# Altium integrated library Renesas Diode.IntLib: 1609 symbols (part 19 of 31)
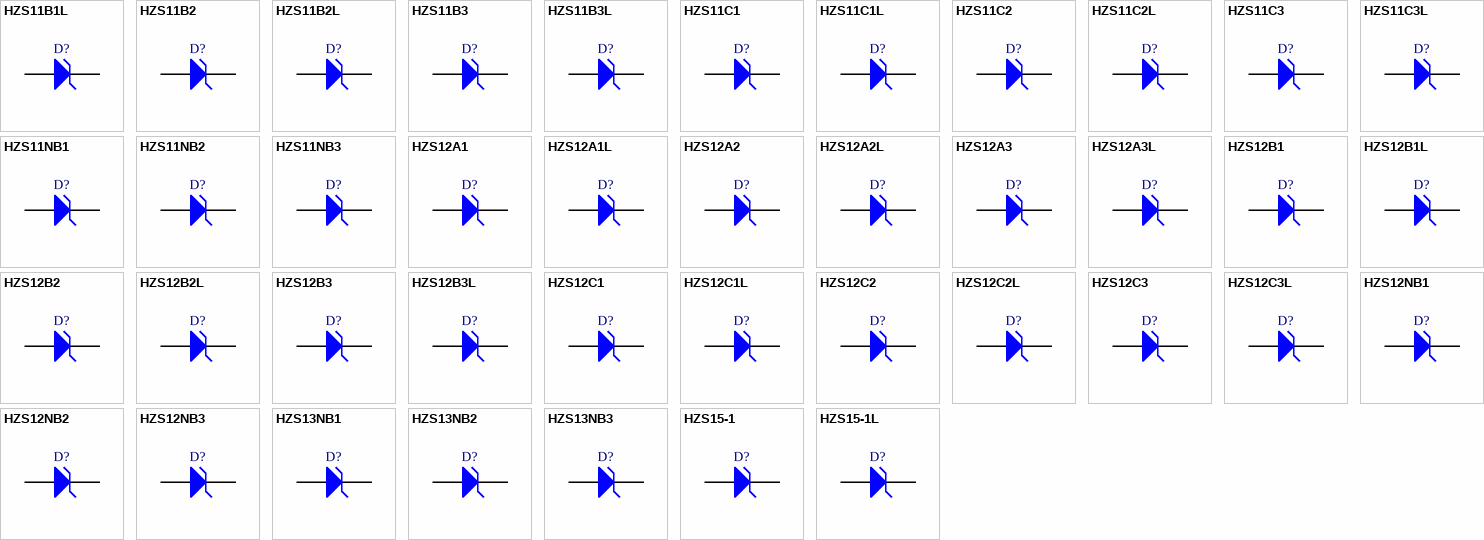
[diagram p63: symbols HZS11B1L to HZS15-1L]

## HZS12C3
designator D?
Silicon Epitaxial Planar Zener Diode for Stabilized Power Supply; Published: 12-Feb-2010; DatasheetVersion: Rev.5.00, Oct-2007; PackageVersion: Jul-2006; PackageReference: GRZZ0002ZC-A; Publisher: Altium Limited; PackageDescription: Diode, Axial; Body 2.4 x 2.0 mm (LxDia.), Lead Dia. 0.4 mm (nom); ComponentLink1Description: Manufacturer Link; ComponentLink1URL: http://sg.renesas.com/fmwk.jsp?cnt=diode_landing.jsp&fp=/products/discrete/diodes/; ComponentLink2Description: Datasheet; ComponentLink2URL: http://documentation.renesas.com/eng/products/diode/rej03g0184_hzs.pdf; ComponentLink3Description: Packaging Specification; ComponentLink3URL: http://sg.renesas.com/media/products/common_info/package/pdf/diode/code/grzz0002zc_a.pdf
footprint GRZZ0002ZC-A (Diode, Axial; Body 2.4 x 2.2 mm (LxDia. max), Lead Dia. 0.4 mm (nom))
signal-integrity model HZS12C3
pins: 1 K, 2 A

## HZS12C3L
designator D?
Silicon Epitaxial Planar Zener Diode for Low Noise Application; Published: 12-Feb-2010; DatasheetVersion: Rev.3.00, Nov-2007; PackageVersion: Jul-2006; PackageReference: GRZZ0002ZC-A; Publisher: Altium Limited; PackageDescription: Diode, Axial; Body 2.4 x 2.0 mm (LxDia.), Lead Dia. 0.4 mm (nom); ComponentLink1Description: Manufacturer Link; ComponentLink1URL: http://sg.renesas.com/fmwk.jsp?cnt=diode_landing.jsp&fp=/products/discrete/diodes/; ComponentLink2Description: Datasheet; ComponentLink2URL: http://documentation.renesas.com/eng/products/diode/rej03g0166_hzs_l.pdf; ComponentLink3Description: Packaging Specification; ComponentLink3URL: http://sg.renesas.com/media/products/common_info/package/pdf/diode/code/grzz0002zc_a.pdf
footprint GRZZ0002ZC-A (Diode, Axial; Body 2.4 x 2.2 mm (LxDia. max), Lead Dia. 0.4 mm (nom))
signal-integrity model HZS12C3L
pins: 1 K, 2 A

## HZS12NB1
designator D?
Silicon Epitaxial Planar Zener Diodes for Stabilized Power Supply; Published: 12-Feb-2010; DatasheetVersion: Rev.3.00, Nov-2007; PackageVersion: Jul-2006; PackageReference: GRZZ0002ZC-A; Publisher: Altium Limited; PackageDescription: Diode, Axial; Body 2.4 x 2.0 mm (LxDia.), Lead Dia. 0.4 mm (nom); ComponentLink1Description: Manufacturer Link; ComponentLink1URL: http://sg.renesas.com/fmwk.jsp?cnt=diode_landing.jsp&fp=/products/discrete/diodes/; ComponentLink2Description: Datasheet; ComponentLink2URL: http://documentation.renesas.com/eng/products/diode/rej03g0185_hzs_n.pdf; ComponentLink3Description: Packaging Specification; ComponentLink3URL: http://sg.renesas.com/media/products/common_info/package/pdf/diode/code/grzz0002zc_a.pdf
footprint GRZZ0002ZC-A (Diode, Axial; Body 2.4 x 2.2 mm (LxDia. max), Lead Dia. 0.4 mm (nom))
signal-integrity model HZS12NB1
pins: 1 K, 2 A

## HZS12NB2
designator D?
Silicon Epitaxial Planar Zener Diodes for Stabilized Power Supply; Published: 12-Feb-2010; DatasheetVersion: Rev.3.00, Nov-2007; PackageVersion: Jul-2006; PackageReference: GRZZ0002ZC-A; Publisher: Altium Limited; PackageDescription: Diode, Axial; Body 2.4 x 2.0 mm (LxDia.), Lead Dia. 0.4 mm (nom); ComponentLink1Description: Manufacturer Link; ComponentLink1URL: http://sg.renesas.com/fmwk.jsp?cnt=diode_landing.jsp&fp=/products/discrete/diodes/; ComponentLink2Description: Datasheet; ComponentLink2URL: http://documentation.renesas.com/eng/products/diode/rej03g0185_hzs_n.pdf; ComponentLink3Description: Packaging Specification; ComponentLink3URL: http://sg.renesas.com/media/products/common_info/package/pdf/diode/code/grzz0002zc_a.pdf
footprint GRZZ0002ZC-A (Diode, Axial; Body 2.4 x 2.2 mm (LxDia. max), Lead Dia. 0.4 mm (nom))
signal-integrity model HZS12NB2
pins: 1 K, 2 A

## HZS12NB3
designator D?
Silicon Epitaxial Planar Zener Diodes for Stabilized Power Supply; Published: 12-Feb-2010; DatasheetVersion: Rev.3.00, Nov-2007; PackageVersion: Jul-2006; PackageReference: GRZZ0002ZC-A; Publisher: Altium Limited; PackageDescription: Diode, Axial; Body 2.4 x 2.0 mm (LxDia.), Lead Dia. 0.4 mm (nom); ComponentLink1Description: Manufacturer Link; ComponentLink1URL: http://sg.renesas.com/fmwk.jsp?cnt=diode_landing.jsp&fp=/products/discrete/diodes/; ComponentLink2Description: Datasheet; ComponentLink2URL: http://documentation.renesas.com/eng/products/diode/rej03g0185_hzs_n.pdf; ComponentLink3Description: Packaging Specification; ComponentLink3URL: http://sg.renesas.com/media/products/common_info/package/pdf/diode/code/grzz0002zc_a.pdf
footprint GRZZ0002ZC-A (Diode, Axial; Body 2.4 x 2.2 mm (LxDia. max), Lead Dia. 0.4 mm (nom))
signal-integrity model HZS12NB3
pins: 1 K, 2 A

## HZS13NB1
designator D?
Silicon Epitaxial Planar Zener Diodes for Stabilized Power Supply; Published: 12-Feb-2010; DatasheetVersion: Rev.3.00, Nov-2007; PackageVersion: Jul-2006; PackageReference: GRZZ0002ZC-A; Publisher: Altium Limited; PackageDescription: Diode, Axial; Body 2.4 x 2.0 mm (LxDia.), Lead Dia. 0.4 mm (nom); ComponentLink1Description: Manufacturer Link; ComponentLink1URL: http://sg.renesas.com/fmwk.jsp?cnt=diode_landing.jsp&fp=/products/discrete/diodes/; ComponentLink2Description: Datasheet; ComponentLink2URL: http://documentation.renesas.com/eng/products/diode/rej03g0185_hzs_n.pdf; ComponentLink3Description: Packaging Specification; ComponentLink3URL: http://sg.renesas.com/media/products/common_info/package/pdf/diode/code/grzz0002zc_a.pdf
footprint GRZZ0002ZC-A (Diode, Axial; Body 2.4 x 2.2 mm (LxDia. max), Lead Dia. 0.4 mm (nom))
signal-integrity model HZS13NB1
pins: 1 K, 2 A

## HZS13NB2
designator D?
Silicon Epitaxial Planar Zener Diodes for Stabilized Power Supply; Published: 12-Feb-2010; DatasheetVersion: Rev.3.00, Nov-2007; PackageVersion: Jul-2006; PackageReference: GRZZ0002ZC-A; Publisher: Altium Limited; PackageDescription: Diode, Axial; Body 2.4 x 2.0 mm (LxDia.), Lead Dia. 0.4 mm (nom); ComponentLink1Description: Manufacturer Link; ComponentLink1URL: http://sg.renesas.com/fmwk.jsp?cnt=diode_landing.jsp&fp=/products/discrete/diodes/; ComponentLink2Description: Datasheet; ComponentLink2URL: http://documentation.renesas.com/eng/products/diode/rej03g0185_hzs_n.pdf; ComponentLink3Description: Packaging Specification; ComponentLink3URL: http://sg.renesas.com/media/products/common_info/package/pdf/diode/code/grzz0002zc_a.pdf
footprint GRZZ0002ZC-A (Diode, Axial; Body 2.4 x 2.2 mm (LxDia. max), Lead Dia. 0.4 mm (nom))
signal-integrity model HZS13NB2
pins: 1 K, 2 A

## HZS13NB3
designator D?
Silicon Epitaxial Planar Zener Diodes for Stabilized Power Supply; Published: 12-Feb-2010; DatasheetVersion: Rev.3.00, Nov-2007; PackageVersion: Jul-2006; PackageReference: GRZZ0002ZC-A; Publisher: Altium Limited; PackageDescription: Diode, Axial; Body 2.4 x 2.0 mm (LxDia.), Lead Dia. 0.4 mm (nom); ComponentLink1Description: Manufacturer Link; ComponentLink1URL: http://sg.renesas.com/fmwk.jsp?cnt=diode_landing.jsp&fp=/products/discrete/diodes/; ComponentLink2Description: Datasheet; ComponentLink2URL: http://documentation.renesas.com/eng/products/diode/rej03g0185_hzs_n.pdf; ComponentLink3Description: Packaging Specification; ComponentLink3URL: http://sg.renesas.com/media/products/common_info/package/pdf/diode/code/grzz0002zc_a.pdf
footprint GRZZ0002ZC-A (Diode, Axial; Body 2.4 x 2.2 mm (LxDia. max), Lead Dia. 0.4 mm (nom))
signal-integrity model HZS13NB3
pins: 1 K, 2 A

## HZS15-1
designator D?
Silicon Epitaxial Planar Zener Diode for Stabilized Power Supply; Published: 12-Feb-2010; DatasheetVersion: Rev.5.00, Oct-2007; PackageVersion: Jul-2006; PackageReference: GRZZ0002ZC-A; Publisher: Altium Limited; PackageDescription: Diode, Axial; Body 2.4 x 2.0 mm (LxDia.), Lead Dia. 0.4 mm (nom); ComponentLink1Description: Manufacturer Link; ComponentLink1URL: http://sg.renesas.com/fmwk.jsp?cnt=diode_landing.jsp&fp=/products/discrete/diodes/; ComponentLink2Description: Datasheet; ComponentLink2URL: http://documentation.renesas.com/eng/products/diode/rej03g0184_hzs.pdf; ComponentLink3Description: Packaging Specification; ComponentLink3URL: http://sg.renesas.com/media/products/common_info/package/pdf/diode/code/grzz0002zc_a.pdf
footprint GRZZ0002ZC-A (Diode, Axial; Body 2.4 x 2.2 mm (LxDia. max), Lead Dia. 0.4 mm (nom))
signal-integrity model HZS15-1
pins: 1 K, 2 A

## HZS15-1L
designator D?
Silicon Epitaxial Planar Zener Diode for Low Noise Application; Published: 12-Feb-2010; DatasheetVersion: Rev.3.00, Nov-2007; PackageVersion: Jul-2006; PackageReference: GRZZ0002ZC-A; Publisher: Altium Limited; PackageDescription: Diode, Axial; Body 2.4 x 2.0 mm (LxDia.), Lead Dia. 0.4 mm (nom); ComponentLink1Description: Manufacturer Link; ComponentLink1URL: http://sg.renesas.com/fmwk.jsp?cnt=diode_landing.jsp&fp=/products/discrete/diodes/; ComponentLink2Description: Datasheet; ComponentLink2URL: http://documentation.renesas.com/eng/products/diode/rej03g0166_hzs_l.pdf; ComponentLink3Description: Packaging Specification; ComponentLink3URL: http://sg.renesas.com/media/products/common_info/package/pdf/diode/code/grzz0002zc_a.pdf
footprint GRZZ0002ZC-A (Diode, Axial; Body 2.4 x 2.2 mm (LxDia. max), Lead Dia. 0.4 mm (nom))
signal-integrity model HZS15-1L
pins: 1 K, 2 A

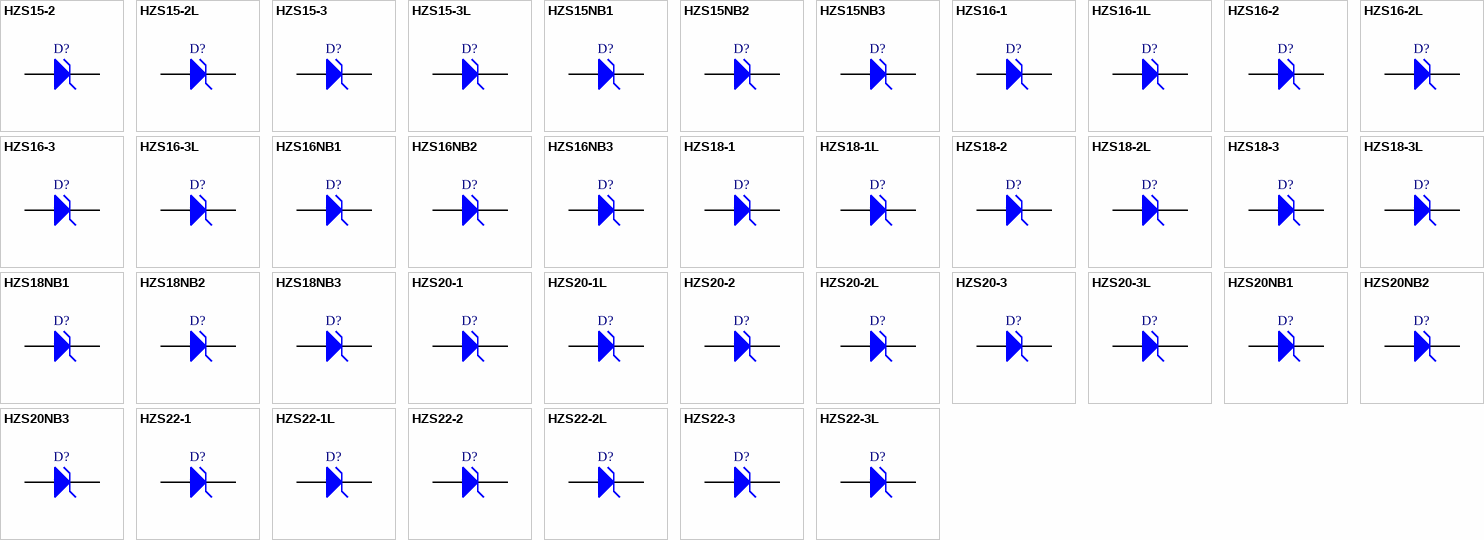
[diagram p26: symbols HZS15-2 to HZS22-3L]

## HZS15-2
designator D?
Silicon Epitaxial Planar Zener Diode for Stabilized Power Supply; Published: 12-Feb-2010; DatasheetVersion: Rev.5.00, Oct-2007; PackageVersion: Jul-2006; PackageReference: GRZZ0002ZC-A; Publisher: Altium Limited; PackageDescription: Diode, Axial; Body 2.4 x 2.0 mm (LxDia.), Lead Dia. 0.4 mm (nom); ComponentLink1Description: Manufacturer Link; ComponentLink1URL: http://sg.renesas.com/fmwk.jsp?cnt=diode_landing.jsp&fp=/products/discrete/diodes/; ComponentLink2Description: Datasheet; ComponentLink2URL: http://documentation.renesas.com/eng/products/diode/rej03g0184_hzs.pdf; ComponentLink3Description: Packaging Specification; ComponentLink3URL: http://sg.renesas.com/media/products/common_info/package/pdf/diode/code/grzz0002zc_a.pdf
footprint GRZZ0002ZC-A (Diode, Axial; Body 2.4 x 2.2 mm (LxDia. max), Lead Dia. 0.4 mm (nom))
signal-integrity model HZS15-2
pins: 1 K, 2 A

## HZS15-2L
designator D?
Silicon Epitaxial Planar Zener Diode for Low Noise Application; Published: 12-Feb-2010; DatasheetVersion: Rev.3.00, Nov-2007; PackageVersion: Jul-2006; PackageReference: GRZZ0002ZC-A; Publisher: Altium Limited; PackageDescription: Diode, Axial; Body 2.4 x 2.0 mm (LxDia.), Lead Dia. 0.4 mm (nom); ComponentLink1Description: Manufacturer Link; ComponentLink1URL: http://sg.renesas.com/fmwk.jsp?cnt=diode_landing.jsp&fp=/products/discrete/diodes/; ComponentLink2Description: Datasheet; ComponentLink2URL: http://documentation.renesas.com/eng/products/diode/rej03g0166_hzs_l.pdf; ComponentLink3Description: Packaging Specification; ComponentLink3URL: http://sg.renesas.com/media/products/common_info/package/pdf/diode/code/grzz0002zc_a.pdf
footprint GRZZ0002ZC-A (Diode, Axial; Body 2.4 x 2.2 mm (LxDia. max), Lead Dia. 0.4 mm (nom))
signal-integrity model HZS15-2L
pins: 1 K, 2 A

## HZS15-3
designator D?
Silicon Epitaxial Planar Zener Diode for Stabilized Power Supply; Published: 12-Feb-2010; DatasheetVersion: Rev.5.00, Oct-2007; PackageVersion: Jul-2006; PackageReference: GRZZ0002ZC-A; Publisher: Altium Limited; PackageDescription: Diode, Axial; Body 2.4 x 2.0 mm (LxDia.), Lead Dia. 0.4 mm (nom); ComponentLink1Description: Manufacturer Link; ComponentLink1URL: http://sg.renesas.com/fmwk.jsp?cnt=diode_landing.jsp&fp=/products/discrete/diodes/; ComponentLink2Description: Datasheet; ComponentLink2URL: http://documentation.renesas.com/eng/products/diode/rej03g0184_hzs.pdf; ComponentLink3Description: Packaging Specification; ComponentLink3URL: http://sg.renesas.com/media/products/common_info/package/pdf/diode/code/grzz0002zc_a.pdf
footprint GRZZ0002ZC-A (Diode, Axial; Body 2.4 x 2.2 mm (LxDia. max), Lead Dia. 0.4 mm (nom))
signal-integrity model HZS15-3
pins: 1 K, 2 A

## HZS15-3L
designator D?
Silicon Epitaxial Planar Zener Diode for Low Noise Application; Published: 12-Feb-2010; DatasheetVersion: Rev.3.00, Nov-2007; PackageVersion: Jul-2006; PackageReference: GRZZ0002ZC-A; Publisher: Altium Limited; PackageDescription: Diode, Axial; Body 2.4 x 2.0 mm (LxDia.), Lead Dia. 0.4 mm (nom); ComponentLink1Description: Manufacturer Link; ComponentLink1URL: http://sg.renesas.com/fmwk.jsp?cnt=diode_landing.jsp&fp=/products/discrete/diodes/; ComponentLink2Description: Datasheet; ComponentLink2URL: http://documentation.renesas.com/eng/products/diode/rej03g0166_hzs_l.pdf; ComponentLink3Description: Packaging Specification; ComponentLink3URL: http://sg.renesas.com/media/products/common_info/package/pdf/diode/code/grzz0002zc_a.pdf
footprint GRZZ0002ZC-A (Diode, Axial; Body 2.4 x 2.2 mm (LxDia. max), Lead Dia. 0.4 mm (nom))
signal-integrity model HZS15-3L
pins: 1 K, 2 A

## HZS15NB1
designator D?
Silicon Epitaxial Planar Zener Diodes for Stabilized Power Supply; Published: 12-Feb-2010; DatasheetVersion: Rev.3.00, Nov-2007; PackageVersion: Jul-2006; PackageReference: GRZZ0002ZC-A; Publisher: Altium Limited; PackageDescription: Diode, Axial; Body 2.4 x 2.0 mm (LxDia.), Lead Dia. 0.4 mm (nom); ComponentLink1Description: Manufacturer Link; ComponentLink1URL: http://sg.renesas.com/fmwk.jsp?cnt=diode_landing.jsp&fp=/products/discrete/diodes/; ComponentLink2Description: Datasheet; ComponentLink2URL: http://documentation.renesas.com/eng/products/diode/rej03g0185_hzs_n.pdf; ComponentLink3Description: Packaging Specification; ComponentLink3URL: http://sg.renesas.com/media/products/common_info/package/pdf/diode/code/grzz0002zc_a.pdf
footprint GRZZ0002ZC-A (Diode, Axial; Body 2.4 x 2.2 mm (LxDia. max), Lead Dia. 0.4 mm (nom))
signal-integrity model HZS15NB1
pins: 1 K, 2 A

## HZS15NB2
designator D?
Silicon Epitaxial Planar Zener Diodes for Stabilized Power Supply; Published: 12-Feb-2010; DatasheetVersion: Rev.3.00, Nov-2007; PackageVersion: Jul-2006; PackageReference: GRZZ0002ZC-A; Publisher: Altium Limited; PackageDescription: Diode, Axial; Body 2.4 x 2.0 mm (LxDia.), Lead Dia. 0.4 mm (nom); ComponentLink1Description: Manufacturer Link; ComponentLink1URL: http://sg.renesas.com/fmwk.jsp?cnt=diode_landing.jsp&fp=/products/discrete/diodes/; ComponentLink2Description: Datasheet; ComponentLink2URL: http://documentation.renesas.com/eng/products/diode/rej03g0185_hzs_n.pdf; ComponentLink3Description: Packaging Specification; ComponentLink3URL: http://sg.renesas.com/media/products/common_info/package/pdf/diode/code/grzz0002zc_a.pdf
footprint GRZZ0002ZC-A (Diode, Axial; Body 2.4 x 2.2 mm (LxDia. max), Lead Dia. 0.4 mm (nom))
signal-integrity model HZS15NB2
pins: 1 K, 2 A

## HZS15NB3
designator D?
Silicon Epitaxial Planar Zener Diodes for Stabilized Power Supply; Published: 12-Feb-2010; DatasheetVersion: Rev.3.00, Nov-2007; PackageVersion: Jul-2006; PackageReference: GRZZ0002ZC-A; Publisher: Altium Limited; PackageDescription: Diode, Axial; Body 2.4 x 2.0 mm (LxDia.), Lead Dia. 0.4 mm (nom); ComponentLink1Description: Manufacturer Link; ComponentLink1URL: http://sg.renesas.com/fmwk.jsp?cnt=diode_landing.jsp&fp=/products/discrete/diodes/; ComponentLink2Description: Datasheet; ComponentLink2URL: http://documentation.renesas.com/eng/products/diode/rej03g0185_hzs_n.pdf; ComponentLink3Description: Packaging Specification; ComponentLink3URL: http://sg.renesas.com/media/products/common_info/package/pdf/diode/code/grzz0002zc_a.pdf
footprint GRZZ0002ZC-A (Diode, Axial; Body 2.4 x 2.2 mm (LxDia. max), Lead Dia. 0.4 mm (nom))
signal-integrity model HZS15NB3
pins: 1 K, 2 A

## HZS16-1
designator D?
Silicon Epitaxial Planar Zener Diode for Stabilized Power Supply; Published: 12-Feb-2010; DatasheetVersion: Rev.5.00, Oct-2007; PackageVersion: Jul-2006; PackageReference: GRZZ0002ZC-A; Publisher: Altium Limited; PackageDescription: Diode, Axial; Body 2.4 x 2.0 mm (LxDia.), Lead Dia. 0.4 mm (nom); ComponentLink1Description: Manufacturer Link; ComponentLink1URL: http://sg.renesas.com/fmwk.jsp?cnt=diode_landing.jsp&fp=/products/discrete/diodes/; ComponentLink2Description: Datasheet; ComponentLink2URL: http://documentation.renesas.com/eng/products/diode/rej03g0184_hzs.pdf; ComponentLink3Description: Packaging Specification; ComponentLink3URL: http://sg.renesas.com/media/products/common_info/package/pdf/diode/code/grzz0002zc_a.pdf
footprint GRZZ0002ZC-A (Diode, Axial; Body 2.4 x 2.2 mm (LxDia. max), Lead Dia. 0.4 mm (nom))
signal-integrity model HZS16-1
pins: 1 K, 2 A

## HZS16-1L
designator D?
Silicon Epitaxial Planar Zener Diode for Low Noise Application; Published: 12-Feb-2010; DatasheetVersion: Rev.3.00, Nov-2007; PackageVersion: Jul-2006; PackageReference: GRZZ0002ZC-A; Publisher: Altium Limited; PackageDescription: Diode, Axial; Body 2.4 x 2.0 mm (LxDia.), Lead Dia. 0.4 mm (nom); ComponentLink1Description: Manufacturer Link; ComponentLink1URL: http://sg.renesas.com/fmwk.jsp?cnt=diode_landing.jsp&fp=/products/discrete/diodes/; ComponentLink2Description: Datasheet; ComponentLink2URL: http://documentation.renesas.com/eng/products/diode/rej03g0166_hzs_l.pdf; ComponentLink3Description: Packaging Specification; ComponentLink3URL: http://sg.renesas.com/media/products/common_info/package/pdf/diode/code/grzz0002zc_a.pdf
footprint GRZZ0002ZC-A (Diode, Axial; Body 2.4 x 2.2 mm (LxDia. max), Lead Dia. 0.4 mm (nom))
signal-integrity model HZS16-1L
pins: 1 K, 2 A

## HZS16-2
designator D?
Silicon Epitaxial Planar Zener Diode for Stabilized Power Supply; Published: 12-Feb-2010; DatasheetVersion: Rev.5.00, Oct-2007; PackageVersion: Jul-2006; PackageReference: GRZZ0002ZC-A; Publisher: Altium Limited; PackageDescription: Diode, Axial; Body 2.4 x 2.0 mm (LxDia.), Lead Dia. 0.4 mm (nom); ComponentLink1Description: Manufacturer Link; ComponentLink1URL: http://sg.renesas.com/fmwk.jsp?cnt=diode_landing.jsp&fp=/products/discrete/diodes/; ComponentLink2Description: Datasheet; ComponentLink2URL: http://documentation.renesas.com/eng/products/diode/rej03g0184_hzs.pdf; ComponentLink3Description: Packaging Specification; ComponentLink3URL: http://sg.renesas.com/media/products/common_info/package/pdf/diode/code/grzz0002zc_a.pdf
footprint GRZZ0002ZC-A (Diode, Axial; Body 2.4 x 2.2 mm (LxDia. max), Lead Dia. 0.4 mm (nom))
signal-integrity model HZS16-2
pins: 1 K, 2 A

## HZS16-2L
designator D?
Silicon Epitaxial Planar Zener Diode for Low Noise Application; Published: 12-Feb-2010; DatasheetVersion: Rev.3.00, Nov-2007; PackageVersion: Jul-2006; PackageReference: GRZZ0002ZC-A; Publisher: Altium Limited; PackageDescription: Diode, Axial; Body 2.4 x 2.0 mm (LxDia.), Lead Dia. 0.4 mm (nom); ComponentLink1Description: Manufacturer Link; ComponentLink1URL: http://sg.renesas.com/fmwk.jsp?cnt=diode_landing.jsp&fp=/products/discrete/diodes/; ComponentLink2Description: Datasheet; ComponentLink2URL: http://documentation.renesas.com/eng/products/diode/rej03g0166_hzs_l.pdf; ComponentLink3Description: Packaging Specification; ComponentLink3URL: http://sg.renesas.com/media/products/common_info/package/pdf/diode/code/grzz0002zc_a.pdf
footprint GRZZ0002ZC-A (Diode, Axial; Body 2.4 x 2.2 mm (LxDia. max), Lead Dia. 0.4 mm (nom))
signal-integrity model HZS16-2L
pins: 1 K, 2 A

## HZS16-3
designator D?
Silicon Epitaxial Planar Zener Diode for Stabilized Power Supply; Published: 12-Feb-2010; DatasheetVersion: Rev.5.00, Oct-2007; PackageVersion: Jul-2006; PackageReference: GRZZ0002ZC-A; Publisher: Altium Limited; PackageDescription: Diode, Axial; Body 2.4 x 2.0 mm (LxDia.), Lead Dia. 0.4 mm (nom); ComponentLink1Description: Manufacturer Link; ComponentLink1URL: http://sg.renesas.com/fmwk.jsp?cnt=diode_landing.jsp&fp=/products/discrete/diodes/; ComponentLink2Description: Datasheet; ComponentLink2URL: http://documentation.renesas.com/eng/products/diode/rej03g0184_hzs.pdf; ComponentLink3Description: Packaging Specification; ComponentLink3URL: http://sg.renesas.com/media/products/common_info/package/pdf/diode/code/grzz0002zc_a.pdf
footprint GRZZ0002ZC-A (Diode, Axial; Body 2.4 x 2.2 mm (LxDia. max), Lead Dia. 0.4 mm (nom))
signal-integrity model HZS16-3
pins: 1 K, 2 A

## HZS16-3L
designator D?
Silicon Epitaxial Planar Zener Diode for Low Noise Application; Published: 12-Feb-2010; DatasheetVersion: Rev.3.00, Nov-2007; PackageVersion: Jul-2006; PackageReference: GRZZ0002ZC-A; Publisher: Altium Limited; PackageDescription: Diode, Axial; Body 2.4 x 2.0 mm (LxDia.), Lead Dia. 0.4 mm (nom); ComponentLink1Description: Manufacturer Link; ComponentLink1URL: http://sg.renesas.com/fmwk.jsp?cnt=diode_landing.jsp&fp=/products/discrete/diodes/; ComponentLink2Description: Datasheet; ComponentLink2URL: http://documentation.renesas.com/eng/products/diode/rej03g0166_hzs_l.pdf; ComponentLink3Description: Packaging Specification; ComponentLink3URL: http://sg.renesas.com/media/products/common_info/package/pdf/diode/code/grzz0002zc_a.pdf
footprint GRZZ0002ZC-A (Diode, Axial; Body 2.4 x 2.2 mm (LxDia. max), Lead Dia. 0.4 mm (nom))
signal-integrity model HZS16-3L
pins: 1 K, 2 A

## HZS16NB1
designator D?
Silicon Epitaxial Planar Zener Diodes for Stabilized Power Supply; Published: 12-Feb-2010; DatasheetVersion: Rev.3.00, Nov-2007; PackageVersion: Jul-2006; PackageReference: GRZZ0002ZC-A; Publisher: Altium Limited; PackageDescription: Diode, Axial; Body 2.4 x 2.0 mm (LxDia.), Lead Dia. 0.4 mm (nom); ComponentLink1Description: Manufacturer Link; ComponentLink1URL: http://sg.renesas.com/fmwk.jsp?cnt=diode_landing.jsp&fp=/products/discrete/diodes/; ComponentLink2Description: Datasheet; ComponentLink2URL: http://documentation.renesas.com/eng/products/diode/rej03g0185_hzs_n.pdf; ComponentLink3Description: Packaging Specification; ComponentLink3URL: http://sg.renesas.com/media/products/common_info/package/pdf/diode/code/grzz0002zc_a.pdf
footprint GRZZ0002ZC-A (Diode, Axial; Body 2.4 x 2.2 mm (LxDia. max), Lead Dia. 0.4 mm (nom))
signal-integrity model HZS16NB1
pins: 1 K, 2 A

## HZS16NB2
designator D?
Silicon Epitaxial Planar Zener Diodes for Stabilized Power Supply; Published: 12-Feb-2010; DatasheetVersion: Rev.3.00, Nov-2007; PackageVersion: Jul-2006; PackageReference: GRZZ0002ZC-A; Publisher: Altium Limited; PackageDescription: Diode, Axial; Body 2.4 x 2.0 mm (LxDia.), Lead Dia. 0.4 mm (nom); ComponentLink1Description: Manufacturer Link; ComponentLink1URL: http://sg.renesas.com/fmwk.jsp?cnt=diode_landing.jsp&fp=/products/discrete/diodes/; ComponentLink2Description: Datasheet; ComponentLink2URL: http://documentation.renesas.com/eng/products/diode/rej03g0185_hzs_n.pdf; ComponentLink3Description: Packaging Specification; ComponentLink3URL: http://sg.renesas.com/media/products/common_info/package/pdf/diode/code/grzz0002zc_a.pdf
footprint GRZZ0002ZC-A (Diode, Axial; Body 2.4 x 2.2 mm (LxDia. max), Lead Dia. 0.4 mm (nom))
signal-integrity model HZS16NB2
pins: 1 K, 2 A

## HZS16NB3
designator D?
Silicon Epitaxial Planar Zener Diodes for Stabilized Power Supply; Published: 12-Feb-2010; DatasheetVersion: Rev.3.00, Nov-2007; PackageVersion: Jul-2006; PackageReference: GRZZ0002ZC-A; Publisher: Altium Limited; PackageDescription: Diode, Axial; Body 2.4 x 2.0 mm (LxDia.), Lead Dia. 0.4 mm (nom); ComponentLink1Description: Manufacturer Link; ComponentLink1URL: http://sg.renesas.com/fmwk.jsp?cnt=diode_landing.jsp&fp=/products/discrete/diodes/; ComponentLink2Description: Datasheet; ComponentLink2URL: http://documentation.renesas.com/eng/products/diode/rej03g0185_hzs_n.pdf; ComponentLink3Description: Packaging Specification; ComponentLink3URL: http://sg.renesas.com/media/products/common_info/package/pdf/diode/code/grzz0002zc_a.pdf
footprint GRZZ0002ZC-A (Diode, Axial; Body 2.4 x 2.2 mm (LxDia. max), Lead Dia. 0.4 mm (nom))
signal-integrity model HZS16NB3
pins: 1 K, 2 A

## HZS18-1
designator D?
Silicon Epitaxial Planar Zener Diode for Stabilized Power Supply; Published: 12-Feb-2010; DatasheetVersion: Rev.5.00, Oct-2007; PackageVersion: Jul-2006; PackageReference: GRZZ0002ZC-A; Publisher: Altium Limited; PackageDescription: Diode, Axial; Body 2.4 x 2.0 mm (LxDia.), Lead Dia. 0.4 mm (nom); ComponentLink1Description: Manufacturer Link; ComponentLink1URL: http://sg.renesas.com/fmwk.jsp?cnt=diode_landing.jsp&fp=/products/discrete/diodes/; ComponentLink2Description: Datasheet; ComponentLink2URL: http://documentation.renesas.com/eng/products/diode/rej03g0184_hzs.pdf; ComponentLink3Description: Packaging Specification; ComponentLink3URL: http://sg.renesas.com/media/products/common_info/package/pdf/diode/code/grzz0002zc_a.pdf
footprint GRZZ0002ZC-A (Diode, Axial; Body 2.4 x 2.2 mm (LxDia. max), Lead Dia. 0.4 mm (nom))
signal-integrity model HZS18-1
pins: 1 K, 2 A

## HZS18-1L
designator D?
Silicon Epitaxial Planar Zener Diode for Low Noise Application; Published: 12-Feb-2010; DatasheetVersion: Rev.3.00, Nov-2007; PackageVersion: Jul-2006; PackageReference: GRZZ0002ZC-A; Publisher: Altium Limited; PackageDescription: Diode, Axial; Body 2.4 x 2.0 mm (LxDia.), Lead Dia. 0.4 mm (nom); ComponentLink1Description: Manufacturer Link; ComponentLink1URL: http://sg.renesas.com/fmwk.jsp?cnt=diode_landing.jsp&fp=/products/discrete/diodes/; ComponentLink2Description: Datasheet; ComponentLink2URL: http://documentation.renesas.com/eng/products/diode/rej03g0166_hzs_l.pdf; ComponentLink3Description: Packaging Specification; ComponentLink3URL: http://sg.renesas.com/media/products/common_info/package/pdf/diode/code/grzz0002zc_a.pdf
footprint GRZZ0002ZC-A (Diode, Axial; Body 2.4 x 2.2 mm (LxDia. max), Lead Dia. 0.4 mm (nom))
signal-integrity model HZS18-1L
pins: 1 K, 2 A

## HZS18-2
designator D?
Silicon Epitaxial Planar Zener Diode for Stabilized Power Supply; Published: 12-Feb-2010; DatasheetVersion: Rev.5.00, Oct-2007; PackageVersion: Jul-2006; PackageReference: GRZZ0002ZC-A; Publisher: Altium Limited; PackageDescription: Diode, Axial; Body 2.4 x 2.0 mm (LxDia.), Lead Dia. 0.4 mm (nom); ComponentLink1Description: Manufacturer Link; ComponentLink1URL: http://sg.renesas.com/fmwk.jsp?cnt=diode_landing.jsp&fp=/products/discrete/diodes/; ComponentLink2Description: Datasheet; ComponentLink2URL: http://documentation.renesas.com/eng/products/diode/rej03g0184_hzs.pdf; ComponentLink3Description: Packaging Specification; ComponentLink3URL: http://sg.renesas.com/media/products/common_info/package/pdf/diode/code/grzz0002zc_a.pdf
footprint GRZZ0002ZC-A (Diode, Axial; Body 2.4 x 2.2 mm (LxDia. max), Lead Dia. 0.4 mm (nom))
signal-integrity model HZS18-2
pins: 1 K, 2 A

## HZS18-2L
designator D?
Silicon Epitaxial Planar Zener Diode for Low Noise Application; Published: 12-Feb-2010; DatasheetVersion: Rev.3.00, Nov-2007; PackageVersion: Jul-2006; PackageReference: GRZZ0002ZC-A; Publisher: Altium Limited; PackageDescription: Diode, Axial; Body 2.4 x 2.0 mm (LxDia.), Lead Dia. 0.4 mm (nom); ComponentLink1Description: Manufacturer Link; ComponentLink1URL: http://sg.renesas.com/fmwk.jsp?cnt=diode_landing.jsp&fp=/products/discrete/diodes/; ComponentLink2Description: Datasheet; ComponentLink2URL: http://documentation.renesas.com/eng/products/diode/rej03g0166_hzs_l.pdf; ComponentLink3Description: Packaging Specification; ComponentLink3URL: http://sg.renesas.com/media/products/common_info/package/pdf/diode/code/grzz0002zc_a.pdf
footprint GRZZ0002ZC-A (Diode, Axial; Body 2.4 x 2.2 mm (LxDia. max), Lead Dia. 0.4 mm (nom))
signal-integrity model HZS18-2L
pins: 1 K, 2 A

## HZS18-3
designator D?
Silicon Epitaxial Planar Zener Diode for Stabilized Power Supply; Published: 12-Feb-2010; DatasheetVersion: Rev.5.00, Oct-2007; PackageVersion: Jul-2006; PackageReference: GRZZ0002ZC-A; Publisher: Altium Limited; PackageDescription: Diode, Axial; Body 2.4 x 2.0 mm (LxDia.), Lead Dia. 0.4 mm (nom); ComponentLink1Description: Manufacturer Link; ComponentLink1URL: http://sg.renesas.com/fmwk.jsp?cnt=diode_landing.jsp&fp=/products/discrete/diodes/; ComponentLink2Description: Datasheet; ComponentLink2URL: http://documentation.renesas.com/eng/products/diode/rej03g0184_hzs.pdf; ComponentLink3Description: Packaging Specification; ComponentLink3URL: http://sg.renesas.com/media/products/common_info/package/pdf/diode/code/grzz0002zc_a.pdf
footprint GRZZ0002ZC-A (Diode, Axial; Body 2.4 x 2.2 mm (LxDia. max), Lead Dia. 0.4 mm (nom))
signal-integrity model HZS18-3
pins: 1 K, 2 A

## HZS18-3L
designator D?
Silicon Epitaxial Planar Zener Diode for Low Noise Application; Published: 12-Feb-2010; DatasheetVersion: Rev.3.00, Nov-2007; PackageVersion: Jul-2006; PackageReference: GRZZ0002ZC-A; Publisher: Altium Limited; PackageDescription: Diode, Axial; Body 2.4 x 2.0 mm (LxDia.), Lead Dia. 0.4 mm (nom); ComponentLink1Description: Manufacturer Link; ComponentLink1URL: http://sg.renesas.com/fmwk.jsp?cnt=diode_landing.jsp&fp=/products/discrete/diodes/; ComponentLink2Description: Datasheet; ComponentLink2URL: http://documentation.renesas.com/eng/products/diode/rej03g0166_hzs_l.pdf; ComponentLink3Description: Packaging Specification; ComponentLink3URL: http://sg.renesas.com/media/products/common_info/package/pdf/diode/code/grzz0002zc_a.pdf
footprint GRZZ0002ZC-A (Diode, Axial; Body 2.4 x 2.2 mm (LxDia. max), Lead Dia. 0.4 mm (nom))
signal-integrity model HZS18-3L
pins: 1 K, 2 A

## HZS18NB1
designator D?
Silicon Epitaxial Planar Zener Diodes for Stabilized Power Supply; Published: 12-Feb-2010; DatasheetVersion: Rev.3.00, Nov-2007; PackageVersion: Jul-2006; PackageReference: GRZZ0002ZC-A; Publisher: Altium Limited; PackageDescription: Diode, Axial; Body 2.4 x 2.0 mm (LxDia.), Lead Dia. 0.4 mm (nom); ComponentLink1Description: Manufacturer Link; ComponentLink1URL: http://sg.renesas.com/fmwk.jsp?cnt=diode_landing.jsp&fp=/products/discrete/diodes/; ComponentLink2Description: Datasheet; ComponentLink2URL: http://documentation.renesas.com/eng/products/diode/rej03g0185_hzs_n.pdf; ComponentLink3Description: Packaging Specification; ComponentLink3URL: http://sg.renesas.com/media/products/common_info/package/pdf/diode/code/grzz0002zc_a.pdf
footprint GRZZ0002ZC-A (Diode, Axial; Body 2.4 x 2.2 mm (LxDia. max), Lead Dia. 0.4 mm (nom))
signal-integrity model HZS18NB1
pins: 1 K, 2 A

## HZS18NB2
designator D?
Silicon Epitaxial Planar Zener Diodes for Stabilized Power Supply; Published: 12-Feb-2010; DatasheetVersion: Rev.3.00, Nov-2007; PackageVersion: Jul-2006; PackageReference: GRZZ0002ZC-A; Publisher: Altium Limited; PackageDescription: Diode, Axial; Body 2.4 x 2.0 mm (LxDia.), Lead Dia. 0.4 mm (nom); ComponentLink1Description: Manufacturer Link; ComponentLink1URL: http://sg.renesas.com/fmwk.jsp?cnt=diode_landing.jsp&fp=/products/discrete/diodes/; ComponentLink2Description: Datasheet; ComponentLink2URL: http://documentation.renesas.com/eng/products/diode/rej03g0185_hzs_n.pdf; ComponentLink3Description: Packaging Specification; ComponentLink3URL: http://sg.renesas.com/media/products/common_info/package/pdf/diode/code/grzz0002zc_a.pdf
footprint GRZZ0002ZC-A (Diode, Axial; Body 2.4 x 2.2 mm (LxDia. max), Lead Dia. 0.4 mm (nom))
signal-integrity model HZS18NB2
pins: 1 K, 2 A

## HZS18NB3
designator D?
Silicon Epitaxial Planar Zener Diodes for Stabilized Power Supply; Published: 12-Feb-2010; DatasheetVersion: Rev.3.00, Nov-2007; PackageVersion: Jul-2006; PackageReference: GRZZ0002ZC-A; Publisher: Altium Limited; PackageDescription: Diode, Axial; Body 2.4 x 2.0 mm (LxDia.), Lead Dia. 0.4 mm (nom); ComponentLink1Description: Manufacturer Link; ComponentLink1URL: http://sg.renesas.com/fmwk.jsp?cnt=diode_landing.jsp&fp=/products/discrete/diodes/; ComponentLink2Description: Datasheet; ComponentLink2URL: http://documentation.renesas.com/eng/products/diode/rej03g0185_hzs_n.pdf; ComponentLink3Description: Packaging Specification; ComponentLink3URL: http://sg.renesas.com/media/products/common_info/package/pdf/diode/code/grzz0002zc_a.pdf
footprint GRZZ0002ZC-A (Diode, Axial; Body 2.4 x 2.2 mm (LxDia. max), Lead Dia. 0.4 mm (nom))
signal-integrity model HZS18NB3
pins: 1 K, 2 A

## HZS20-1
designator D?
Silicon Epitaxial Planar Zener Diode for Stabilized Power Supply; Published: 12-Feb-2010; DatasheetVersion: Rev.5.00, Oct-2007; PackageVersion: Jul-2006; PackageReference: GRZZ0002ZC-A; Publisher: Altium Limited; PackageDescription: Diode, Axial; Body 2.4 x 2.0 mm (LxDia.), Lead Dia. 0.4 mm (nom); ComponentLink1Description: Manufacturer Link; ComponentLink1URL: http://sg.renesas.com/fmwk.jsp?cnt=diode_landing.jsp&fp=/products/discrete/diodes/; ComponentLink2Description: Datasheet; ComponentLink2URL: http://documentation.renesas.com/eng/products/diode/rej03g0184_hzs.pdf; ComponentLink3Description: Packaging Specification; ComponentLink3URL: http://sg.renesas.com/media/products/common_info/package/pdf/diode/code/grzz0002zc_a.pdf
footprint GRZZ0002ZC-A (Diode, Axial; Body 2.4 x 2.2 mm (LxDia. max), Lead Dia. 0.4 mm (nom))
signal-integrity model HZS20-1
pins: 1 K, 2 A

## HZS20-1L
designator D?
Silicon Epitaxial Planar Zener Diode for Low Noise Application; Published: 12-Feb-2010; DatasheetVersion: Rev.3.00, Nov-2007; PackageVersion: Jul-2006; PackageReference: GRZZ0002ZC-A; Publisher: Altium Limited; PackageDescription: Diode, Axial; Body 2.4 x 2.0 mm (LxDia.), Lead Dia. 0.4 mm (nom); ComponentLink1Description: Manufacturer Link; ComponentLink1URL: http://sg.renesas.com/fmwk.jsp?cnt=diode_landing.jsp&fp=/products/discrete/diodes/; ComponentLink2Description: Datasheet; ComponentLink2URL: http://documentation.renesas.com/eng/products/diode/rej03g0166_hzs_l.pdf; ComponentLink3Description: Packaging Specification; ComponentLink3URL: http://sg.renesas.com/media/products/common_info/package/pdf/diode/code/grzz0002zc_a.pdf
footprint GRZZ0002ZC-A (Diode, Axial; Body 2.4 x 2.2 mm (LxDia. max), Lead Dia. 0.4 mm (nom))
signal-integrity model HZS20-1L
pins: 1 K, 2 A

## HZS20-2
designator D?
Silicon Epitaxial Planar Zener Diode for Stabilized Power Supply; Published: 12-Feb-2010; DatasheetVersion: Rev.5.00, Oct-2007; PackageVersion: Jul-2006; PackageReference: GRZZ0002ZC-A; Publisher: Altium Limited; PackageDescription: Diode, Axial; Body 2.4 x 2.0 mm (LxDia.), Lead Dia. 0.4 mm (nom); ComponentLink1Description: Manufacturer Link; ComponentLink1URL: http://sg.renesas.com/fmwk.jsp?cnt=diode_landing.jsp&fp=/products/discrete/diodes/; ComponentLink2Description: Datasheet; ComponentLink2URL: http://documentation.renesas.com/eng/products/diode/rej03g0184_hzs.pdf; ComponentLink3Description: Packaging Specification; ComponentLink3URL: http://sg.renesas.com/media/products/common_info/package/pdf/diode/code/grzz0002zc_a.pdf
footprint GRZZ0002ZC-A (Diode, Axial; Body 2.4 x 2.2 mm (LxDia. max), Lead Dia. 0.4 mm (nom))
signal-integrity model HZS20-2
pins: 1 K, 2 A

## HZS20-2L
designator D?
Silicon Epitaxial Planar Zener Diode for Low Noise Application; Published: 12-Feb-2010; DatasheetVersion: Rev.3.00, Nov-2007; PackageVersion: Jul-2006; PackageReference: GRZZ0002ZC-A; Publisher: Altium Limited; PackageDescription: Diode, Axial; Body 2.4 x 2.0 mm (LxDia.), Lead Dia. 0.4 mm (nom); ComponentLink1Description: Manufacturer Link; ComponentLink1URL: http://sg.renesas.com/fmwk.jsp?cnt=diode_landing.jsp&fp=/products/discrete/diodes/; ComponentLink2Description: Datasheet; ComponentLink2URL: http://documentation.renesas.com/eng/products/diode/rej03g0166_hzs_l.pdf; ComponentLink3Description: Packaging Specification; ComponentLink3URL: http://sg.renesas.com/media/products/common_info/package/pdf/diode/code/grzz0002zc_a.pdf
footprint GRZZ0002ZC-A (Diode, Axial; Body 2.4 x 2.2 mm (LxDia. max), Lead Dia. 0.4 mm (nom))
signal-integrity model HZS20-2L
pins: 1 K, 2 A

## HZS20-3
designator D?
Silicon Epitaxial Planar Zener Diode for Stabilized Power Supply; Published: 12-Feb-2010; DatasheetVersion: Rev.5.00, Oct-2007; PackageVersion: Jul-2006; PackageReference: GRZZ0002ZC-A; Publisher: Altium Limited; PackageDescription: Diode, Axial; Body 2.4 x 2.0 mm (LxDia.), Lead Dia. 0.4 mm (nom); ComponentLink1Description: Manufacturer Link; ComponentLink1URL: http://sg.renesas.com/fmwk.jsp?cnt=diode_landing.jsp&fp=/products/discrete/diodes/; ComponentLink2Description: Datasheet; ComponentLink2URL: http://documentation.renesas.com/eng/products/diode/rej03g0184_hzs.pdf; ComponentLink3Description: Packaging Specification; ComponentLink3URL: http://sg.renesas.com/media/products/common_info/package/pdf/diode/code/grzz0002zc_a.pdf
footprint GRZZ0002ZC-A (Diode, Axial; Body 2.4 x 2.2 mm (LxDia. max), Lead Dia. 0.4 mm (nom))
signal-integrity model HZS20-3
pins: 1 K, 2 A

## HZS20-3L
designator D?
Silicon Epitaxial Planar Zener Diode for Low Noise Application; Published: 12-Feb-2010; DatasheetVersion: Rev.3.00, Nov-2007; PackageVersion: Jul-2006; PackageReference: GRZZ0002ZC-A; Publisher: Altium Limited; PackageDescription: Diode, Axial; Body 2.4 x 2.0 mm (LxDia.), Lead Dia. 0.4 mm (nom); ComponentLink1Description: Manufacturer Link; ComponentLink1URL: http://sg.renesas.com/fmwk.jsp?cnt=diode_landing.jsp&fp=/products/discrete/diodes/; ComponentLink2Description: Datasheet; ComponentLink2URL: http://documentation.renesas.com/eng/products/diode/rej03g0166_hzs_l.pdf; ComponentLink3Description: Packaging Specification; ComponentLink3URL: http://sg.renesas.com/media/products/common_info/package/pdf/diode/code/grzz0002zc_a.pdf
footprint GRZZ0002ZC-A (Diode, Axial; Body 2.4 x 2.2 mm (LxDia. max), Lead Dia. 0.4 mm (nom))
signal-integrity model HZS20-3L
pins: 1 K, 2 A

## HZS20NB1
designator D?
Silicon Epitaxial Planar Zener Diodes for Stabilized Power Supply; Published: 12-Feb-2010; DatasheetVersion: Rev.3.00, Nov-2007; PackageVersion: Jul-2006; PackageReference: GRZZ0002ZC-A; Publisher: Altium Limited; PackageDescription: Diode, Axial; Body 2.4 x 2.0 mm (LxDia.), Lead Dia. 0.4 mm (nom); ComponentLink1Description: Manufacturer Link; ComponentLink1URL: http://sg.renesas.com/fmwk.jsp?cnt=diode_landing.jsp&fp=/products/discrete/diodes/; ComponentLink2Description: Datasheet; ComponentLink2URL: http://documentation.renesas.com/eng/products/diode/rej03g0185_hzs_n.pdf; ComponentLink3Description: Packaging Specification; ComponentLink3URL: http://sg.renesas.com/media/products/common_info/package/pdf/diode/code/grzz0002zc_a.pdf
footprint GRZZ0002ZC-A (Diode, Axial; Body 2.4 x 2.2 mm (LxDia. max), Lead Dia. 0.4 mm (nom))
signal-integrity model HZS20NB1
pins: 1 K, 2 A

## HZS20NB2
designator D?
Silicon Epitaxial Planar Zener Diodes for Stabilized Power Supply; Published: 12-Feb-2010; DatasheetVersion: Rev.3.00, Nov-2007; PackageVersion: Jul-2006; PackageReference: GRZZ0002ZC-A; Publisher: Altium Limited; PackageDescription: Diode, Axial; Body 2.4 x 2.0 mm (LxDia.), Lead Dia. 0.4 mm (nom); ComponentLink1Description: Manufacturer Link; ComponentLink1URL: http://sg.renesas.com/fmwk.jsp?cnt=diode_landing.jsp&fp=/products/discrete/diodes/; ComponentLink2Description: Datasheet; ComponentLink2URL: http://documentation.renesas.com/eng/products/diode/rej03g0185_hzs_n.pdf; ComponentLink3Description: Packaging Specification; ComponentLink3URL: http://sg.renesas.com/media/products/common_info/package/pdf/diode/code/grzz0002zc_a.pdf
footprint GRZZ0002ZC-A (Diode, Axial; Body 2.4 x 2.2 mm (LxDia. max), Lead Dia. 0.4 mm (nom))
signal-integrity model HZS20NB2
pins: 1 K, 2 A

## HZS20NB3
designator D?
Silicon Epitaxial Planar Zener Diodes for Stabilized Power Supply; Published: 12-Feb-2010; DatasheetVersion: Rev.3.00, Nov-2007; PackageVersion: Jul-2006; PackageReference: GRZZ0002ZC-A; Publisher: Altium Limited; PackageDescription: Diode, Axial; Body 2.4 x 2.0 mm (LxDia.), Lead Dia. 0.4 mm (nom); ComponentLink1Description: Manufacturer Link; ComponentLink1URL: http://sg.renesas.com/fmwk.jsp?cnt=diode_landing.jsp&fp=/products/discrete/diodes/; ComponentLink2Description: Datasheet; ComponentLink2URL: http://documentation.renesas.com/eng/products/diode/rej03g0185_hzs_n.pdf; ComponentLink3Description: Packaging Specification; ComponentLink3URL: http://sg.renesas.com/media/products/common_info/package/pdf/diode/code/grzz0002zc_a.pdf
footprint GRZZ0002ZC-A (Diode, Axial; Body 2.4 x 2.2 mm (LxDia. max), Lead Dia. 0.4 mm (nom))
signal-integrity model HZS20NB3
pins: 1 K, 2 A

## HZS22-1
designator D?
Silicon Epitaxial Planar Zener Diode for Stabilized Power Supply; Published: 12-Feb-2010; DatasheetVersion: Rev.5.00, Oct-2007; PackageVersion: Jul-2006; PackageReference: GRZZ0002ZC-A; Publisher: Altium Limited; PackageDescription: Diode, Axial; Body 2.4 x 2.0 mm (LxDia.), Lead Dia. 0.4 mm (nom); ComponentLink1Description: Manufacturer Link; ComponentLink1URL: http://sg.renesas.com/fmwk.jsp?cnt=diode_landing.jsp&fp=/products/discrete/diodes/; ComponentLink2Description: Datasheet; ComponentLink2URL: http://documentation.renesas.com/eng/products/diode/rej03g0184_hzs.pdf; ComponentLink3Description: Packaging Specification; ComponentLink3URL: http://sg.renesas.com/media/products/common_info/package/pdf/diode/code/grzz0002zc_a.pdf
footprint GRZZ0002ZC-A (Diode, Axial; Body 2.4 x 2.2 mm (LxDia. max), Lead Dia. 0.4 mm (nom))
signal-integrity model HZS22-1
pins: 1 K, 2 A

## HZS22-1L
designator D?
Silicon Epitaxial Planar Zener Diode for Low Noise Application; Published: 12-Feb-2010; DatasheetVersion: Rev.3.00, Nov-2007; PackageVersion: Jul-2006; PackageReference: GRZZ0002ZC-A; Publisher: Altium Limited; PackageDescription: Diode, Axial; Body 2.4 x 2.0 mm (LxDia.), Lead Dia. 0.4 mm (nom); ComponentLink1Description: Manufacturer Link; ComponentLink1URL: http://sg.renesas.com/fmwk.jsp?cnt=diode_landing.jsp&fp=/products/discrete/diodes/; ComponentLink2Description: Datasheet; ComponentLink2URL: http://documentation.renesas.com/eng/products/diode/rej03g0166_hzs_l.pdf; ComponentLink3Description: Packaging Specification; ComponentLink3URL: http://sg.renesas.com/media/products/common_info/package/pdf/diode/code/grzz0002zc_a.pdf
footprint GRZZ0002ZC-A (Diode, Axial; Body 2.4 x 2.2 mm (LxDia. max), Lead Dia. 0.4 mm (nom))
signal-integrity model HZS22-1L
pins: 1 K, 2 A

## HZS22-2
designator D?
Silicon Epitaxial Planar Zener Diode for Stabilized Power Supply; Published: 12-Feb-2010; DatasheetVersion: Rev.5.00, Oct-2007; PackageVersion: Jul-2006; PackageReference: GRZZ0002ZC-A; Publisher: Altium Limited; PackageDescription: Diode, Axial; Body 2.4 x 2.0 mm (LxDia.), Lead Dia. 0.4 mm (nom); ComponentLink1Description: Manufacturer Link; ComponentLink1URL: http://sg.renesas.com/fmwk.jsp?cnt=diode_landing.jsp&fp=/products/discrete/diodes/; ComponentLink2Description: Datasheet; ComponentLink2URL: http://documentation.renesas.com/eng/products/diode/rej03g0184_hzs.pdf; ComponentLink3Description: Packaging Specification; ComponentLink3URL: http://sg.renesas.com/media/products/common_info/package/pdf/diode/code/grzz0002zc_a.pdf
footprint GRZZ0002ZC-A (Diode, Axial; Body 2.4 x 2.2 mm (LxDia. max), Lead Dia. 0.4 mm (nom))
signal-integrity model HZS22-2
pins: 1 K, 2 A

## HZS22-2L
designator D?
Silicon Epitaxial Planar Zener Diode for Low Noise Application; Published: 12-Feb-2010; DatasheetVersion: Rev.3.00, Nov-2007; PackageVersion: Jul-2006; PackageReference: GRZZ0002ZC-A; Publisher: Altium Limited; PackageDescription: Diode, Axial; Body 2.4 x 2.0 mm (LxDia.), Lead Dia. 0.4 mm (nom); ComponentLink1Description: Manufacturer Link; ComponentLink1URL: http://sg.renesas.com/fmwk.jsp?cnt=diode_landing.jsp&fp=/products/discrete/diodes/; ComponentLink2Description: Datasheet; ComponentLink2URL: http://documentation.renesas.com/eng/products/diode/rej03g0166_hzs_l.pdf; ComponentLink3Description: Packaging Specification; ComponentLink3URL: http://sg.renesas.com/media/products/common_info/package/pdf/diode/code/grzz0002zc_a.pdf
footprint GRZZ0002ZC-A (Diode, Axial; Body 2.4 x 2.2 mm (LxDia. max), Lead Dia. 0.4 mm (nom))
signal-integrity model HZS22-2L
pins: 1 K, 2 A

## HZS22-3
designator D?
Silicon Epitaxial Planar Zener Diode for Stabilized Power Supply; Published: 12-Feb-2010; DatasheetVersion: Rev.5.00, Oct-2007; PackageVersion: Jul-2006; PackageReference: GRZZ0002ZC-A; Publisher: Altium Limited; PackageDescription: Diode, Axial; Body 2.4 x 2.0 mm (LxDia.), Lead Dia. 0.4 mm (nom); ComponentLink1Description: Manufacturer Link; ComponentLink1URL: http://sg.renesas.com/fmwk.jsp?cnt=diode_landing.jsp&fp=/products/discrete/diodes/; ComponentLink2Description: Datasheet; ComponentLink2URL: http://documentation.renesas.com/eng/products/diode/rej03g0184_hzs.pdf; ComponentLink3Description: Packaging Specification; ComponentLink3URL: http://sg.renesas.com/media/products/common_info/package/pdf/diode/code/grzz0002zc_a.pdf
footprint GRZZ0002ZC-A (Diode, Axial; Body 2.4 x 2.2 mm (LxDia. max), Lead Dia. 0.4 mm (nom))
signal-integrity model HZS22-3
pins: 1 K, 2 A

## HZS22-3L
designator D?
Silicon Epitaxial Planar Zener Diode for Low Noise Application; Published: 12-Feb-2010; DatasheetVersion: Rev.3.00, Nov-2007; PackageVersion: Jul-2006; PackageReference: GRZZ0002ZC-A; Publisher: Altium Limited; PackageDescription: Diode, Axial; Body 2.4 x 2.0 mm (LxDia.), Lead Dia. 0.4 mm (nom); ComponentLink1Description: Manufacturer Link; ComponentLink1URL: http://sg.renesas.com/fmwk.jsp?cnt=diode_landing.jsp&fp=/products/discrete/diodes/; ComponentLink2Description: Datasheet; ComponentLink2URL: http://documentation.renesas.com/eng/products/diode/rej03g0166_hzs_l.pdf; ComponentLink3Description: Packaging Specification; ComponentLink3URL: http://sg.renesas.com/media/products/common_info/package/pdf/diode/code/grzz0002zc_a.pdf
footprint GRZZ0002ZC-A (Diode, Axial; Body 2.4 x 2.2 mm (LxDia. max), Lead Dia. 0.4 mm (nom))
signal-integrity model HZS22-3L
pins: 1 K, 2 A

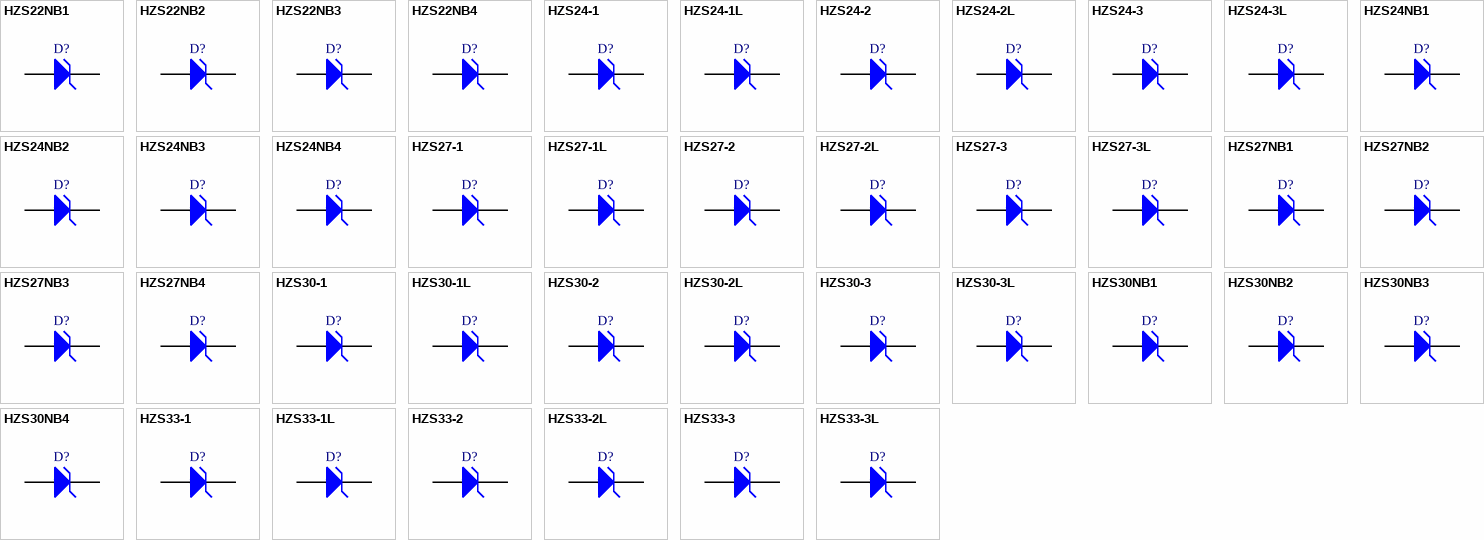
[diagram p27: symbols HZS22NB1 to HZS33-3L]

## HZS22NB1
designator D?
Silicon Epitaxial Planar Zener Diodes for Stabilized Power Supply; Published: 12-Feb-2010; DatasheetVersion: Rev.3.00, Nov-2007; PackageVersion: Jul-2006; PackageReference: GRZZ0002ZC-A; Publisher: Altium Limited; PackageDescription: Diode, Axial; Body 2.4 x 2.0 mm (LxDia.), Lead Dia. 0.4 mm (nom); ComponentLink1Description: Manufacturer Link; ComponentLink1URL: http://sg.renesas.com/fmwk.jsp?cnt=diode_landing.jsp&fp=/products/discrete/diodes/; ComponentLink2Description: Datasheet; ComponentLink2URL: http://documentation.renesas.com/eng/products/diode/rej03g0185_hzs_n.pdf; ComponentLink3Description: Packaging Specification; ComponentLink3URL: http://sg.renesas.com/media/products/common_info/package/pdf/diode/code/grzz0002zc_a.pdf
footprint GRZZ0002ZC-A (Diode, Axial; Body 2.4 x 2.2 mm (LxDia. max), Lead Dia. 0.4 mm (nom))
signal-integrity model HZS22NB1
pins: 1 K, 2 A

## HZS22NB2
designator D?
Silicon Epitaxial Planar Zener Diodes for Stabilized Power Supply; Published: 12-Feb-2010; DatasheetVersion: Rev.3.00, Nov-2007; PackageVersion: Jul-2006; PackageReference: GRZZ0002ZC-A; Publisher: Altium Limited; PackageDescription: Diode, Axial; Body 2.4 x 2.0 mm (LxDia.), Lead Dia. 0.4 mm (nom); ComponentLink1Description: Manufacturer Link; ComponentLink1URL: http://sg.renesas.com/fmwk.jsp?cnt=diode_landing.jsp&fp=/products/discrete/diodes/; ComponentLink2Description: Datasheet; ComponentLink2URL: http://documentation.renesas.com/eng/products/diode/rej03g0185_hzs_n.pdf; ComponentLink3Description: Packaging Specification; ComponentLink3URL: http://sg.renesas.com/media/products/common_info/package/pdf/diode/code/grzz0002zc_a.pdf
footprint GRZZ0002ZC-A (Diode, Axial; Body 2.4 x 2.2 mm (LxDia. max), Lead Dia. 0.4 mm (nom))
signal-integrity model HZS22NB2
pins: 1 K, 2 A

## HZS22NB3
designator D?
Silicon Epitaxial Planar Zener Diodes for Stabilized Power Supply; Published: 12-Feb-2010; DatasheetVersion: Rev.3.00, Nov-2007; PackageVersion: Jul-2006; PackageReference: GRZZ0002ZC-A; Publisher: Altium Limited; PackageDescription: Diode, Axial; Body 2.4 x 2.0 mm (LxDia.), Lead Dia. 0.4 mm (nom); ComponentLink1Description: Manufacturer Link; ComponentLink1URL: http://sg.renesas.com/fmwk.jsp?cnt=diode_landing.jsp&fp=/products/discrete/diodes/; ComponentLink2Description: Datasheet; ComponentLink2URL: http://documentation.renesas.com/eng/products/diode/rej03g0185_hzs_n.pdf; ComponentLink3Description: Packaging Specification; ComponentLink3URL: http://sg.renesas.com/media/products/common_info/package/pdf/diode/code/grzz0002zc_a.pdf
footprint GRZZ0002ZC-A (Diode, Axial; Body 2.4 x 2.2 mm (LxDia. max), Lead Dia. 0.4 mm (nom))
signal-integrity model HZS22NB3
pins: 1 K, 2 A

## HZS22NB4
designator D?
Silicon Epitaxial Planar Zener Diodes for Stabilized Power Supply; Published: 12-Feb-2010; DatasheetVersion: Rev.3.00, Nov-2007; PackageVersion: Jul-2006; PackageReference: GRZZ0002ZC-A; Publisher: Altium Limited; PackageDescription: Diode, Axial; Body 2.4 x 2.0 mm (LxDia.), Lead Dia. 0.4 mm (nom); ComponentLink1Description: Manufacturer Link; ComponentLink1URL: http://sg.renesas.com/fmwk.jsp?cnt=diode_landing.jsp&fp=/products/discrete/diodes/; ComponentLink2Description: Datasheet; ComponentLink2URL: http://documentation.renesas.com/eng/products/diode/rej03g0185_hzs_n.pdf; ComponentLink3Description: Packaging Specification; ComponentLink3URL: http://sg.renesas.com/media/products/common_info/package/pdf/diode/code/grzz0002zc_a.pdf
footprint GRZZ0002ZC-A (Diode, Axial; Body 2.4 x 2.2 mm (LxDia. max), Lead Dia. 0.4 mm (nom))
signal-integrity model HZS22NB4
pins: 1 K, 2 A

## HZS24-1
designator D?
Silicon Epitaxial Planar Zener Diode for Stabilized Power Supply; Published: 12-Feb-2010; DatasheetVersion: Rev.5.00, Oct-2007; PackageVersion: Jul-2006; PackageReference: GRZZ0002ZC-A; Publisher: Altium Limited; PackageDescription: Diode, Axial; Body 2.4 x 2.0 mm (LxDia.), Lead Dia. 0.4 mm (nom); ComponentLink1Description: Manufacturer Link; ComponentLink1URL: http://sg.renesas.com/fmwk.jsp?cnt=diode_landing.jsp&fp=/products/discrete/diodes/; ComponentLink2Description: Datasheet; ComponentLink2URL: http://documentation.renesas.com/eng/products/diode/rej03g0184_hzs.pdf; ComponentLink3Description: Packaging Specification; ComponentLink3URL: http://sg.renesas.com/media/products/common_info/package/pdf/diode/code/grzz0002zc_a.pdf
footprint GRZZ0002ZC-A (Diode, Axial; Body 2.4 x 2.2 mm (LxDia. max), Lead Dia. 0.4 mm (nom))
signal-integrity model HZS24-1
pins: 1 K, 2 A